# EAGLE library part SN74AVCH16T245_DGV_48 (library SN74AVCH16T245_DGV_48)
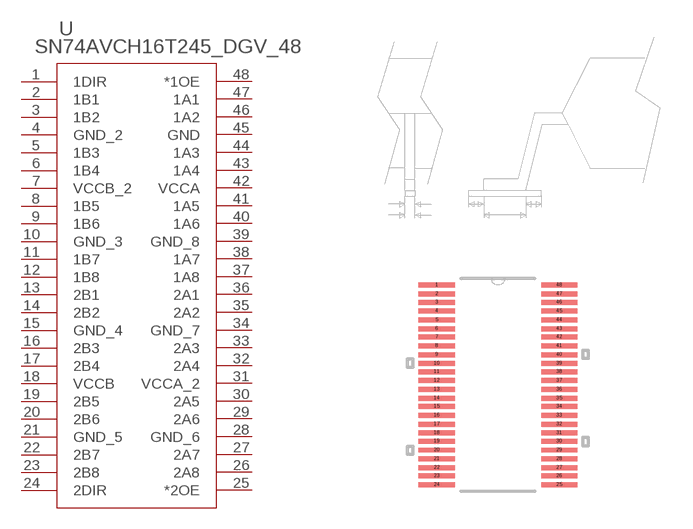
[diagram p0: symbol with the pads of DGV48; footprint DGV48]

Designator prefix U

## SN74AVCH16T245_DGV_48 (DATASHEETURL: http://www.ti.com/lit/gpn/SN74AVCH16T245; DESCRIPTION: 16-Bit Dual Supply Bus Transceiver with Configurable Voltage Translation and 3-State Outputs; FAMILY_NAME: DIRECTION CONTROL DUAL SUPPLY TRANSLATOR; GENERIC_PART_NUMBER: SN74AVCH16T245; INDUSTRY_STD_PKG_TYPE: TVSOP; MANUFACTURER: Texas Instruments; MANUFACTURER_PART_NUMBER: sn74avch16t245_dgv_48; PACKAGE_DESIGNATOR: DGV; PIN_COUNT: 48; VENDOR: Texas Instruments)  [DGV48]
1  1DIR  in
2  1B1
3  1B2
4  GND_2  pwr
5  1B3
6  1B4
7  VCCB_2  pwr
8  1B5
9  1B6
10  GND_3  pwr
11  1B7
12  1B8
13  2B1
14  2B2
15  GND_4  pwr
16  2B3
17  2B4
18  VCCB  pwr
19  2B5
20  2B6
21  GND_5  pwr
22  2B7
23  2B8
24  2DIR  in
25  *2OE  in
26  2A8
27  2A7
28  GND_6  pwr
29  2A6
30  2A5
31  VCCA_2  pwr
32  2A4
33  2A3
34  GND_7  pwr
35  2A2
36  2A1
37  1A8
38  1A7
39  GND_8  pwr
40  1A6
41  1A5
42  VCCA  pwr
43  1A4
44  1A3
45  GND  pwr
46  1A2
47  1A1
48  *1OE  in

## Footprint DGV48 (pad centres in mm)
smd 1.676 x 0.229: 1 -2.819,4.597; 2 -2.819,4.191; 3 -2.819,3.81; 4 -2.819,3.404; 5 -2.819,2.997; 6 -2.819,2.591; 7 -2.819,2.21; 8 -2.819,1.803; 9 -2.819,1.397; 10 -2.819,0.991; 11 -2.819,0.61; 12 -2.819,0.203; 13 -2.819,-0.203; 14 -2.819,-0.61; 15 -2.819,-0.991; 16 -2.819,-1.397; 17 -2.819,-1.803; 18 -2.819,-2.21; 19 -2.819,-2.591; 20 -2.819,-2.997; 21 -2.819,-3.404; 22 -2.819,-3.81; 23 -2.819,-4.191; 24 -2.819,-4.597; 25 2.819,-4.597; 26 2.819,-4.191; 27 2.819,-3.81; 28 2.819,-3.404; 29 2.819,-2.997; 30 2.819,-2.591; 31 2.819,-2.21; 32 2.819,-1.803; 33 2.819,-1.397; 34 2.819,-0.991; 35 2.819,-0.61; 36 2.819,-0.203; 37 2.819,0.203; 38 2.819,0.61; 39 2.819,0.991; 40 2.819,1.397; 41 2.819,1.803; 42 2.819,2.21; 43 2.819,2.591; 44 2.819,2.997; 45 2.819,3.404; 46 2.819,3.81; 47 2.819,4.191; 48 2.819,4.597